# Altium footprint library Footprint_Motors.PcbLib: 1 footprints
Each footprint in its own frame and in the unit in brackets; x right, y up, seen from the top. Pads: shape width x height; smd on the part's side, far side on the other; paste and mask are expansions set on the pad; w line width, h text height; cw(c..) or ccw(c..) is an arc to the next point about the centre after c.
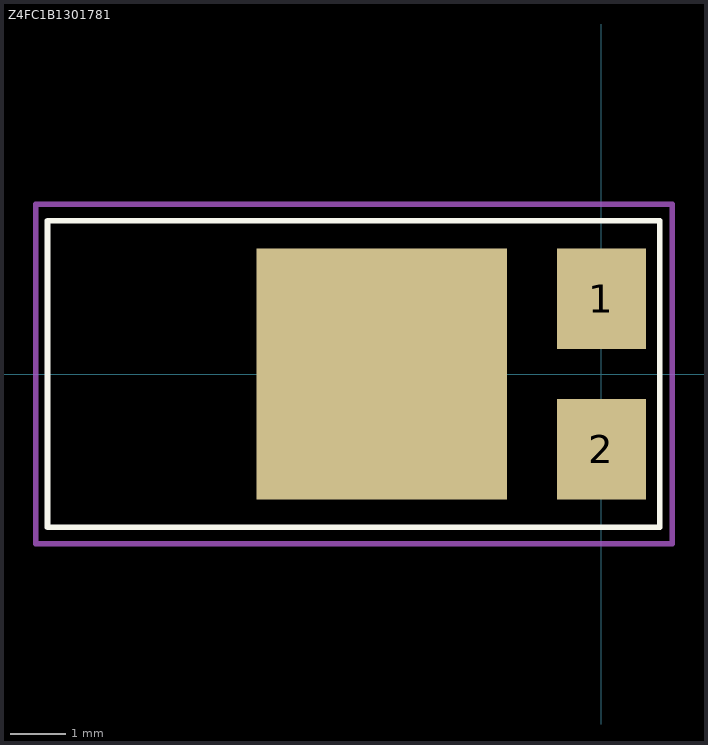
[diagram p0: the footprint, top view; thin cyan lines are the x and y axes]

## Z4FC1B1301781 [mm] "Vibration Motor 10.9 x 4.5 x 4.85mm"
height 4.85
pads (3):
  rect 1.6x1.8 smd: 1(0,1.35) 2(0,-1.35)
  rect 4.5x4.5 smd: ""(-3.95,0)
Top Overlay:
  lines w0.1: -9.95,-2.75 -9.95,2.75 1.05,2.75 1.05,-2.75 -9.95,-2.75
Mechanical 15:
  lines w0.1: -10.16,-3.048 -10.16,3.048 1.27,3.048 1.27,-3.048 -10.16,-3.048